# EAGLE library part 556 (library SparkFun-IC-Special-Function)
556 Dual 555 timer 2 555 timers in one package 1MHZ 14DIP Datasheet <https://cdn.sparkfun.com/datasheets/Kits/icm7555-56.pdf> SparkFun Products SparkFun SparkPunk Sound Kit <https://www.sparkfun.com/products/11177> (KIT-11177)
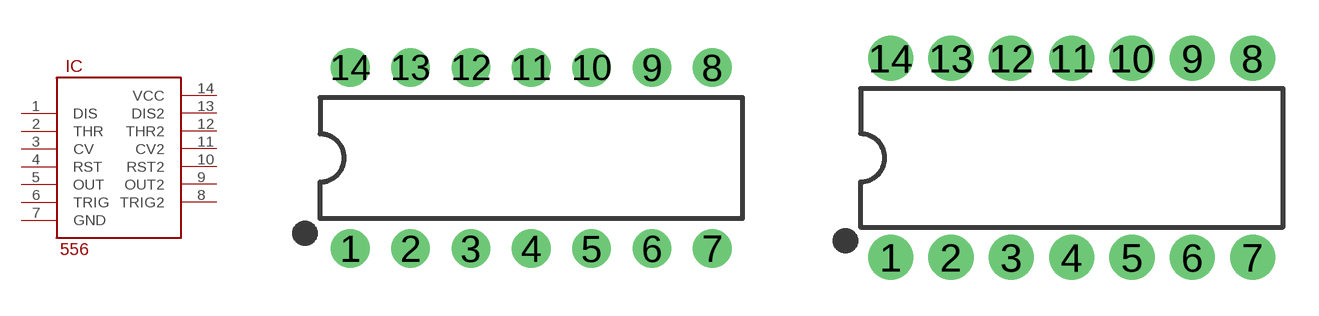
[diagram p28: symbol with the pads of DIP14; footprints DIP14, DIP14-KIT]

Designator prefix IC

## 556 (PROD_ID: IC-11898; VALUE: 556)  [DIP14]
1  DIS
2  THR
3  CV
4  RST
5  OUT
6  TRIG
7  GND
8  TRIG2
9  OUT2
10  RST2
11  CV2
12  THR2
13  DIS2
14  VCC

## 556KIT (PROD_ID: IC-11898; VALUE: 556)  [DIP14-KIT]
Pads as for DIP14

## Footprint DIP14 (pad centres in mm)
drill 0.813 pad 1.626: 1 -7.62,-3.81; 2 -5.08,-3.81; 3 -2.54,-3.81; 4 0,-3.81; 5 2.54,-3.81; 6 5.08,-3.81; 7 7.62,-3.81; 8 7.62,3.81; 9 5.08,3.81; 10 2.54,3.81; 11 0,3.81; 12 -2.54,3.81; 13 -5.08,3.81; 14 -7.62,3.81

## Footprint DIP14-KIT (pad centres in mm)
drill 0.864 pad 1.905: 1 -8.89,-4.191; 2 -6.35,-4.191; 3 -3.81,-4.191; 4 -1.27,-4.191; 5 1.27,-4.191; 6 3.81,-4.191; 7 6.35,-4.191; 8 6.35,4.191; 9 3.81,4.191; 10 1.27,4.191; 11 -1.27,4.191; 12 -3.81,4.191; 13 -6.35,4.191; 14 -8.89,4.191